# Altium integrated library TI Power Management Step-Down Regulator.IntLib: 559 symbols (part 29 of 35)
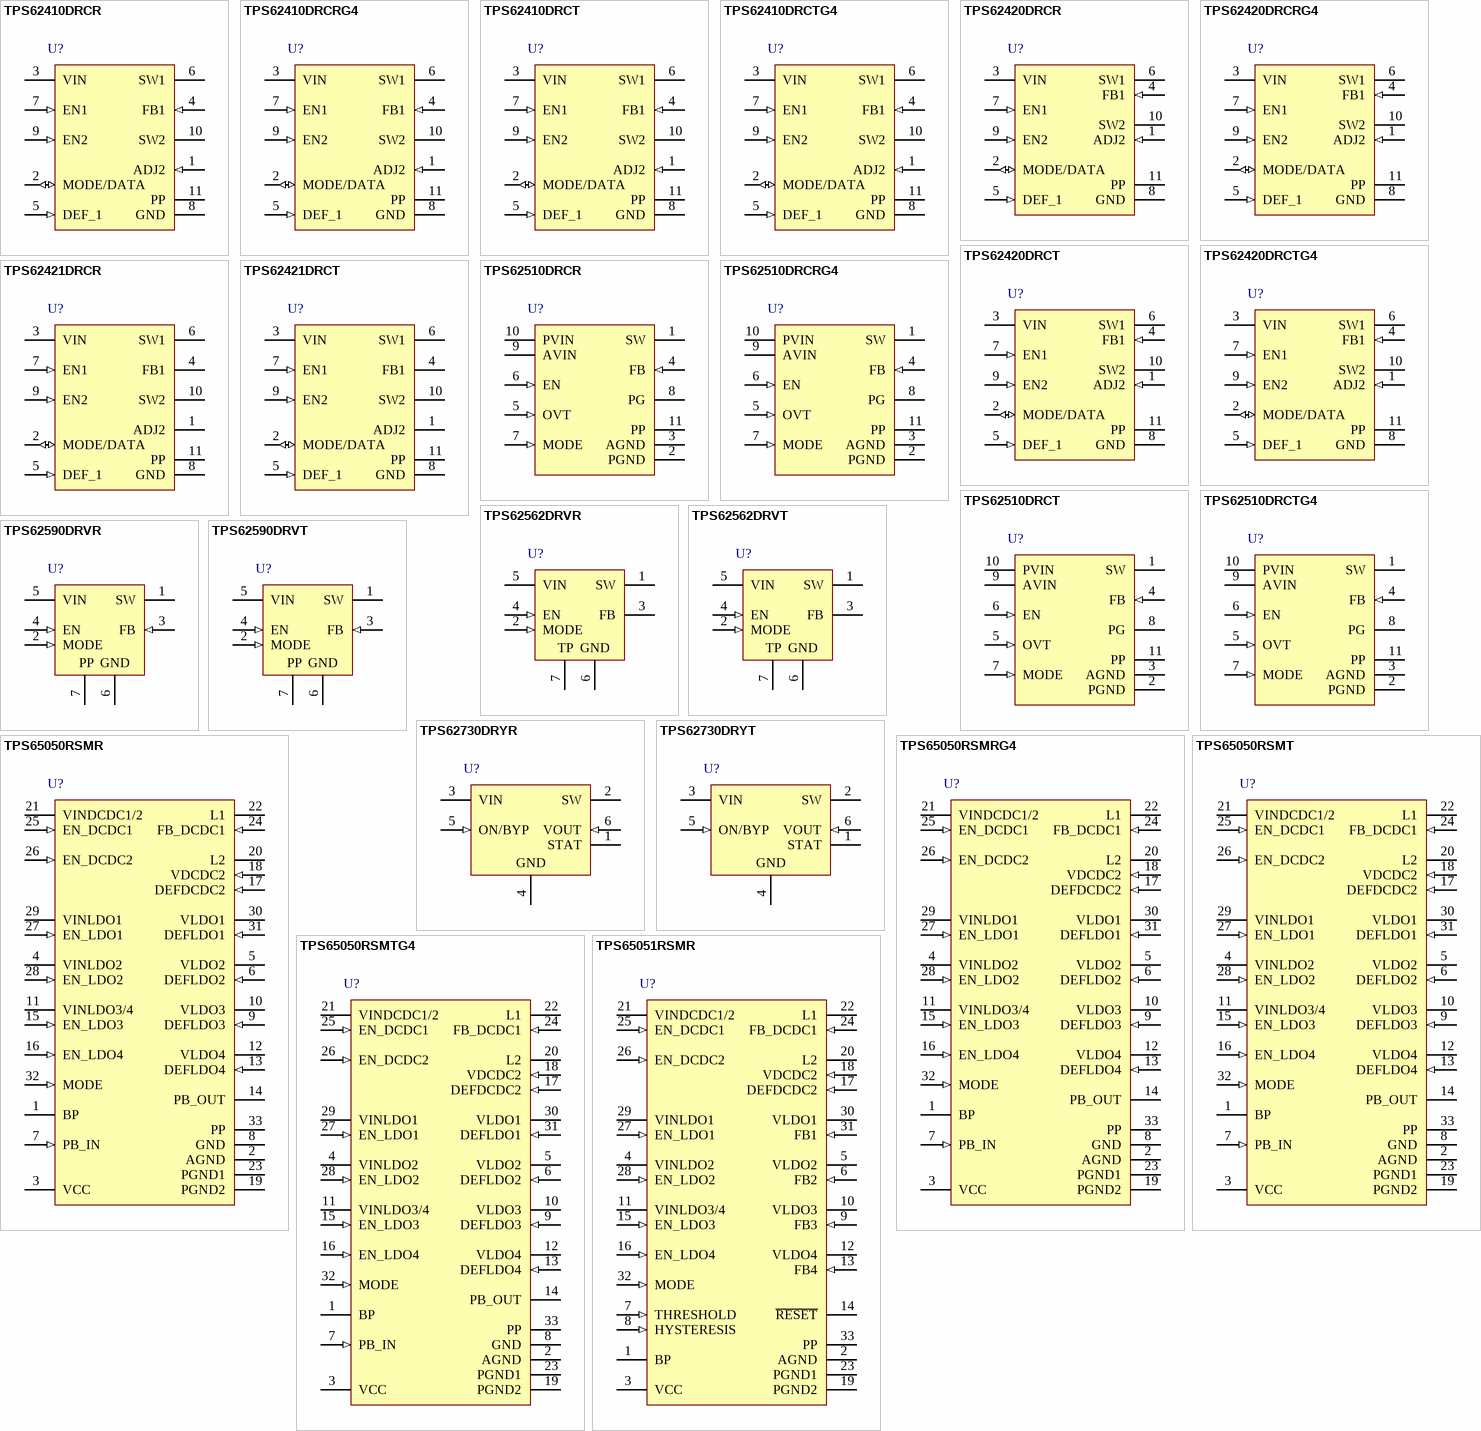
[diagram p47: symbols TPS62410DRCR to TPS65051RSMR]

## TPS62421DRCR
designator U?
Buck Step Down Regulator with 2.5 to 6 V Input and 1.2 to 1.8 V Output, -40 to 85 degC, 10-Pin SON (DRC), Green (RoHS & no Sb/Br); Manufacturer: Texas Instruments; PartNumber: TPS62421DRCR; Duty Cycle(Max)(%): 100; Dynamic Voltage Scaling: TRUE; Iout(Max)(A): 0.6; Iout2(Max)(A): 1; Iq(Typ)(mA): 0.032; Rating: Catalog; Regulated Outputs(#): 2; SubFamily: Step-Down Regulator; Vin(Max)(V): 6; Vin(Min)(V): 2.5; Vout(Max)(V): 1.8; Vout(Min)(V): 1.2; DatasheetVersion: SLVS676C; PackageVersion: revL, Sep-2011; PackageReference: DRC10-2400X1650TP; PackageDescription: 10-Pin Plastic Small Outline No-Lead, 3 x 3 x 1 mm Body, 0.5 mm Pitch, Exposed Pad; Supplier 1: Digi-Key; Supplier Part Number 1: 296-27748-2-ND; Supplier 2: Digi-Key; Supplier Part Number 2: 296-27748-1-ND; Supplier 3: Digi-Key; Supplier Part Number 3: 296-27748-6-ND; Supplier 4: Newark; Supplier Part Number 4: 01T0853; Supplier 5: Mouser; Supplier Part Number 5: 595-TPS62421DRCR; Eco-Plan: Green (RoHS & no Sb/Br); Switch Current Limit(Typ)(A): 1; Synchronous Rectification: TRUE; Topology: Buck; Vout2(Max)(V): 1.8; Vout2(Min)(V): 1.8; Mounting Technology: Surface Mount; ComponentLink1Description: Datasheet; ComponentLink1URL: http://www.ti.com/general/docs/lit/getliterature.tsp?genericPartNumber=TPS62421&fileType=pdf; ComponentLink2Description: Package Specification; ComponentLink2URL: http://www.ti.com/litv/pdf/mpds117k; ComponentLink3Description: URL Link1; ComponentLink3URL: Samples URL:http://www.ti.com/product/tps62421#samples
footprint DRC10-2400X1650TP (SON, 10-Leads, Body 3x3mm, Pitch 0.5mm, Thermal Pad 2.4x1.65mm, TI Recommended)
pins: 1 ADJ2 "Input to adjust output voltage of converter 2. In adjustable version (TPS62420) connect a external resistor divider between VOUT2, this pin and GND to set output voltage between 0.6V and VIN. If EasyScale Interface is used (See Datasheet)", 2 MODE/DATA (io) "This Pin has 2 functions: 1. Operation Mode selection: With low level, Power Save Mode is enabled where the device operates in PFM mode at light loads and enters automatically PWM mode at heavy loads. Pulling this PIN to (See Datasheet)", 3 VIN (power) "Supply voltage, connect to VBAT, 2.5V to 6V", 4 FB1 "Direct feedback voltage sense input of converter 1, connect directly to Vout 1. An internal feed forward capacitor is connected between this pin and the error amplifier. In case of fixed output voltage versions or when the (See Datasheet)", 5 DEF_1 (in) "This pin defines the output voltage of converter 1. The pin acts in TPS62420 as an analog input for output voltage setting via external resistors. In fixed default output voltage versions this pin is a digital input to (See Datasheet)", 6 SW1 (power) "Switch Pin of Converter1. Connected to Inductor", 7 EN1 (in) "Enable Input for Converter1, active high", 8 GND (power) "GND for both converters, this pin should be connected with the PowerPAD", 9 EN2 (in) "Enable Input for Converter 2, active high", 10 SW2 (power) "Switch Pin of Converter 2. Connected to Inductor.", 11 PP (power) "Connect to GND"

## TPS62421DRCT
designator U?
Buck Step Down Regulator with 2.5 to 6 V Input and 1.2 to 1.8 V Output, -40 to 85 degC, 10-Pin SON (DRC), Green (RoHS & no Sb/Br); Manufacturer: Texas Instruments; PartNumber: TPS62421DRCT; Duty Cycle(Max)(%): 100; Dynamic Voltage Scaling: TRUE; Iout(Max)(A): 0.6; Iout2(Max)(A): 1; Iq(Typ)(mA): 0.032; Rating: Catalog; Regulated Outputs(#): 2; SubFamily: Step-Down Regulator; Vin(Max)(V): 6; Vin(Min)(V): 2.5; Vout(Max)(V): 1.8; Vout(Min)(V): 1.2; DatasheetVersion: SLVS676C; PackageVersion: revL, Sep-2011; PackageReference: DRC10-2400X1650TP; PackageDescription: 10-Pin Plastic Small Outline No-Lead, 3 x 3 x 1 mm Body, 0.5 mm Pitch, Exposed Pad; Supplier 1: Digi-Key; Supplier Part Number 1: TPS62421DRCT-ND; Supplier 2: Newark; Supplier Part Number 2: 01T0854; Supplier 3: Mouser; Supplier Part Number 3: 595-TPS62421DRCT; Eco-Plan: Green (RoHS & no Sb/Br); Switch Current Limit(Typ)(A): 1; Synchronous Rectification: TRUE; Topology: Buck; Vout2(Max)(V): 1.8; Vout2(Min)(V): 1.8; Mounting Technology: Surface Mount; ComponentLink1Description: Datasheet; ComponentLink1URL: http://www.ti.com/general/docs/lit/getliterature.tsp?genericPartNumber=TPS62421&fileType=pdf; ComponentLink2Description: Package Specification; ComponentLink2URL: http://www.ti.com/litv/pdf/mpds117k; ComponentLink3Description: URL Link1; ComponentLink3URL: Samples URL:http://www.ti.com/product/tps54611#samples
footprint DRC10-2400X1650TP (SON, 10-Leads, Body 3x3mm, Pitch 0.5mm, Thermal Pad 2.4x1.65mm, TI Recommended)
pins: 1 ADJ2 "Input to adjust output voltage of converter 2. In adjustable version (TPS62420) connect a external resistor divider between VOUT2, this pin and GND to set output voltage between 0.6V and VIN. If EasyScale Interface is used (See Datasheet)", 2 MODE/DATA (io) "This Pin has 2 functions: 1. Operation Mode selection: With low level, Power Save Mode is enabled where the device operates in PFM mode at light loads and enters automatically PWM mode at heavy loads. Pulling this PIN to (See Datasheet)", 3 VIN (power) "Supply voltage, connect to VBAT, 2.5V to 6V", 4 FB1 "Direct feedback voltage sense input of converter 1, connect directly to Vout 1. An internal feed forward capacitor is connected between this pin and the error amplifier. In case of fixed output voltage versions or when the (See Datasheet)", 5 DEF_1 (in) "This pin defines the output voltage of converter 1. The pin acts in TPS62420 as an analog input for output voltage setting via external resistors. In fixed default output voltage versions this pin is a digital input to (See Datasheet)", 6 SW1 (power) "Switch Pin of Converter1. Connected to Inductor", 7 EN1 (in) "Enable Input for Converter1, active high", 8 GND (power) "GND for both converters, this pin should be connected with the PowerPAD", 9 EN2 (in) "Enable Input for Converter 2, active high", 10 SW2 (power) "Switch Pin of Converter 2. Connected to Inductor.", 11 PP (power) "Connect to GND"

## TPS62510DRCR
designator U?
Buck Adjustable Regulator with 1.8 to 3.8 V Input and 0.6 to 3.8 V Output, -40 to 85 degC, 10-Pin SON (DRC), Green (RoHS & no Sb/Br); Manufacturer: Texas Instruments; PartNumber: TPS62510DRCR; Duty Cycle(Max)(%): 100; Iout(Max)(A): 1.5; Iq(Typ)(mA): 0.018; Rating: Catalog; Regulated Outputs(#): 1; SubFamily: Step-Down Regulator; Switch Current Limit(Typ)(A): 2; Synchronous Rectification: TRUE; Vin(Max)(V): 3.8; Vin(Min)(V): 1.8; Vout(Min)(V): 0.6; DatasheetVersion: SLVS651A; PackageVersion: revL, Sep-2011; PackageReference: DRC10-2400X1650TP; PackageDescription: 10-Pin Plastic Small Outline No-Lead, 3 x 3 x 1 mm Body, 0.5 mm Pitch, Exposed Pad; Supplier 1: Digi-Key; Supplier Part Number 1: 296-19793-2-ND; Supplier 2: Digi-Key; Supplier Part Number 2: 296-19793-1-ND; Supplier 3: Digi-Key; Supplier Part Number 3: 296-19793-6-ND; Supplier 4: Farnell; Supplier Part Number 4: 1576950; Supplier 5: Newark; Supplier Part Number 5: 99K4417; Supplier 6: Mouser; Supplier Part Number 6: 595-TPS62510DRCR; Eco-Plan: Green (RoHS & no Sb/Br); Topology: Buck; Vout(Max)(V): 3.8; Mounting Technology: Surface Mount; ComponentLink1Description: Datasheet; ComponentLink1URL: http://www.ti.com/general/docs/lit/getliterature.tsp?genericPartNumber=TPS62510&fileType=pdf; ComponentLink2Description: Package Specification; ComponentLink2URL: http://www.ti.com/litv/pdf/mpds117k; ComponentLink3Description: URL Link1; ComponentLink3URL: Samples URL:http://www.ti.com/product/tps62510#samples
footprint DRC10-2400X1650TP (SON, 10-Leads, Body 3x3mm, Pitch 0.5mm, Thermal Pad 2.4x1.65mm, TI Recommended)
pins: 1 SW (power) "Switch pin of the converter. The inductor is connected here.", 2 PGND (power) "Power ground for the converter", 3 AGND (power) "Analog ground connection", 4 FB (in) "Feedback voltage sense input. Connect directly to VO or to the midpoint of an external voltage divider for the adjustable version.", 5 OVT (in) "Output Voltage Tracking input. The signal applied to this pin is used as reference voltage overiding the internal reference voltage when it is below the internal 0.6-V reference. If this feature is not used, the OVT pin is (See Datasheet)", 6 EN (in) "Enable pin. A logic high enables the regulator, a logic low disables the regulator. This pin needs to be terminated and not left floating.", 7 MODE (in) "This pin is used to force fixed frequency PWM operation or to synchronize the device to an external clock signal. With MODE = high, the device is forced into 1.5-MHz fixed frequency PWM operation. With MODE = low, the device (See Datasheet)", 8 PG (hiz) "Power Good indication. This is a open drain output that is low when the device is disabled or the output voltage drops 10% below target.", 9 AVIN (power) "Power supply for control circuitry. Must be connected to the same voltage supply as PVIN through RC filter.", 10 PVIN (power) "Input voltage for the power stage. VIN must be connected to the same voltage supply as AVIN.", 11 PP (power) "Connect the PowerPAD to analog ground AGND."

## TPS62510DRCRG4
designator U?
Buck Adjustable Regulator with 1.8 to 3.8 V Input and 0.6 to 3.8 V Output, -40 to 85 degC, 10-Pin SON (DRC), Green (RoHS & no Sb/Br); Manufacturer: Texas Instruments; PartNumber: TPS62510DRCRG4; Duty Cycle(Max)(%): 100; Iout(Max)(A): 1.5; Iq(Typ)(mA): 0.018; Rating: Catalog; Regulated Outputs(#): 1; SubFamily: Step-Down Regulator; Switch Current Limit(Typ)(A): 2; Synchronous Rectification: TRUE; Vin(Max)(V): 3.8; Vin(Min)(V): 1.8; Vout(Min)(V): 0.6; DatasheetVersion: SLVS651A; PackageVersion: revL, Sep-2011; PackageReference: DRC10-2400X1650TP; PackageDescription: 10-Pin Plastic Small Outline No-Lead, 3 x 3 x 1 mm Body, 0.5 mm Pitch, Exposed Pad; Supplier 1: Digi-Key; Supplier Part Number 1: TPS62510DRCRG4-ND; Supplier 2: Newark; Supplier Part Number 2: 02M4317; Supplier 3: Mouser; Supplier Part Number 3: 595-TPS62510DRCRG4; Eco-Plan: Green (RoHS & no Sb/Br); Topology: Buck; Vout(Max)(V): 3.8; Mounting Technology: Surface Mount; ComponentLink1Description: Datasheet; ComponentLink1URL: http://www.ti.com/general/docs/lit/getliterature.tsp?genericPartNumber=TPS62510&fileType=pdf; ComponentLink2Description: Package Specification; ComponentLink2URL: http://www.ti.com/litv/pdf/mpds117k; ComponentLink3Description: URL Link1; ComponentLink3URL: Samples URL:http://www.ti.com/product/tps62510#samples
footprint DRC10-2400X1650TP (SON, 10-Leads, Body 3x3mm, Pitch 0.5mm, Thermal Pad 2.4x1.65mm, TI Recommended)
pins: 1 SW (power) "Switch pin of the converter. The inductor is connected here.", 2 PGND (power) "Power ground for the converter", 3 AGND (power) "Analog ground connection", 4 FB (in) "Feedback voltage sense input. Connect directly to VO or to the midpoint of an external voltage divider for the adjustable version.", 5 OVT (in) "Output Voltage Tracking input. The signal applied to this pin is used as reference voltage overiding the internal reference voltage when it is below the internal 0.6-V reference. If this feature is not used, the OVT pin is (See Datasheet)", 6 EN (in) "Enable pin. A logic high enables the regulator, a logic low disables the regulator. This pin needs to be terminated and not left floating.", 7 MODE (in) "This pin is used to force fixed frequency PWM operation or to synchronize the device to an external clock signal. With MODE = high, the device is forced into 1.5-MHz fixed frequency PWM operation. With MODE = low, the device (See Datasheet)", 8 PG (hiz) "Power Good indication. This is a open drain output that is low when the device is disabled or the output voltage drops 10% below target.", 9 AVIN (power) "Power supply for control circuitry. Must be connected to the same voltage supply as PVIN through RC filter.", 10 PVIN (power) "Input voltage for the power stage. VIN must be connected to the same voltage supply as AVIN.", 11 PP (power) "Connect the PowerPAD to analog ground AGND."

## TPS62510DRCT
designator U?
Buck Adjustable Regulator with 1.8 to 3.8 V Input and 0.6 to 3.8 V Output, -40 to 85 degC, 10-Pin SON (DRC), Green (RoHS & no Sb/Br); Manufacturer: Texas Instruments; PartNumber: TPS62510DRCT; Duty Cycle(Max)(%): 100; Iout(Max)(A): 1.5; Iq(Typ)(mA): 0.018; Rating: Catalog; Regulated Outputs(#): 1; SubFamily: Step-Down Regulator; Switch Current Limit(Typ)(A): 2; Synchronous Rectification: TRUE; Vin(Max)(V): 3.8; Vin(Min)(V): 1.8; Vout(Min)(V): 0.6; DatasheetVersion: SLVS651A; PackageVersion: revL, Sep-2011; PackageReference: DRC10-2400X1650TP; PackageDescription: 10-Pin Plastic Small Outline No-Lead, 3 x 3 x 1 mm Body, 0.5 mm Pitch, Exposed Pad; Supplier 1: Digi-Key; Supplier Part Number 1: 296-32512-2-ND; Supplier 2: Digi-Key; Supplier Part Number 2: 296-32512-1-ND; Supplier 3: Digi-Key; Supplier Part Number 3: 296-32512-6-ND; Supplier 4: Farnell; Supplier Part Number 4: 1755476; Supplier 5: Newark; Supplier Part Number 5: 99K4418; Supplier 6: Mouser; Supplier Part Number 6: 595-TPS62510DRCT; Eco-Plan: Green (RoHS & no Sb/Br); Topology: Buck; Vout(Max)(V): 3.8; Mounting Technology: Surface Mount; ComponentLink1Description: Datasheet; ComponentLink1URL: http://www.ti.com/general/docs/lit/getliterature.tsp?genericPartNumber=TPS62510&fileType=pdf; ComponentLink2Description: Package Specification; ComponentLink2URL: http://www.ti.com/litv/pdf/mpds117k; ComponentLink3Description: URL Link1; ComponentLink3URL: Samples URL:http://www.ti.com/product/tps62510#samples
footprint DRC10-2400X1650TP (SON, 10-Leads, Body 3x3mm, Pitch 0.5mm, Thermal Pad 2.4x1.65mm, TI Recommended)
pins: 1 SW (power) "Switch pin of the converter. The inductor is connected here.", 2 PGND (power) "Power ground for the converter", 3 AGND (power) "Analog ground connection", 4 FB (in) "Feedback voltage sense input. Connect directly to VO or to the midpoint of an external voltage divider for the adjustable version.", 5 OVT (in) "Output Voltage Tracking input. The signal applied to this pin is used as reference voltage overiding the internal reference voltage when it is below the internal 0.6-V reference. If this feature is not used, the OVT pin is (See Datasheet)", 6 EN (in) "Enable pin. A logic high enables the regulator, a logic low disables the regulator. This pin needs to be terminated and not left floating.", 7 MODE (in) "This pin is used to force fixed frequency PWM operation or to synchronize the device to an external clock signal. With MODE = high, the device is forced into 1.5-MHz fixed frequency PWM operation. With MODE = low, the device (See Datasheet)", 8 PG (hiz) "Power Good indication. This is a open drain output that is low when the device is disabled or the output voltage drops 10% below target.", 9 AVIN (power) "Power supply for control circuitry. Must be connected to the same voltage supply as PVIN through RC filter.", 10 PVIN (power) "Input voltage for the power stage. VIN must be connected to the same voltage supply as AVIN.", 11 PP (power) "Connect the PowerPAD to analog ground AGND."

## TPS62510DRCTG4
designator U?
Buck Adjustable Regulator with 1.8 to 3.8 V Input and 0.6 to 3.8 V Output, -40 to 85 degC, 10-Pin SON (DRC), Green (RoHS & no Sb/Br); Manufacturer: Texas Instruments; PartNumber: TPS62510DRCTG4; Duty Cycle(Max)(%): 100; Iout(Max)(A): 1.5; Iq(Typ)(mA): 0.018; Rating: Catalog; Regulated Outputs(#): 1; SubFamily: Step-Down Regulator; Switch Current Limit(Typ)(A): 2; Synchronous Rectification: TRUE; Vin(Max)(V): 3.8; Vin(Min)(V): 1.8; Vout(Min)(V): 0.6; DatasheetVersion: SLVS651A; PackageVersion: revL, Sep-2011; PackageReference: DRC10-2400X1650TP; PackageDescription: 10-Pin Plastic Small Outline No-Lead, 3 x 3 x 1 mm Body, 0.5 mm Pitch, Exposed Pad; Supplier 1: Digi-Key; Supplier Part Number 1: TPS62510DRCTG4-ND; Supplier 2: Newark; Supplier Part Number 2: 02M4318; Supplier 3: Mouser; Supplier Part Number 3: 595-TPS62510DRCTG4; Eco-Plan: Green (RoHS & no Sb/Br); Topology: Buck; Vout(Max)(V): 3.8; Mounting Technology: Surface Mount; ComponentLink1Description: Datasheet; ComponentLink1URL: http://www.ti.com/general/docs/lit/getliterature.tsp?genericPartNumber=TPS62510&fileType=pdf; ComponentLink2Description: Package Specification; ComponentLink2URL: http://www.ti.com/litv/pdf/mpds117k; ComponentLink3Description: URL Link1; ComponentLink3URL: Samples URL:http://www.ti.com/product/tps54611#samples
footprint DRC10-2400X1650TP (SON, 10-Leads, Body 3x3mm, Pitch 0.5mm, Thermal Pad 2.4x1.65mm, TI Recommended)
pins: 1 SW (power) "Switch pin of the converter. The inductor is connected here.", 2 PGND (power) "Power ground for the converter", 3 AGND (power) "Analog ground connection", 4 FB (in) "Feedback voltage sense input. Connect directly to VO or to the midpoint of an external voltage divider for the adjustable version.", 5 OVT (in) "Output Voltage Tracking input. The signal applied to this pin is used as reference voltage overiding the internal reference voltage when it is below the internal 0.6-V reference. If this feature is not used, the OVT pin is (See Datasheet)", 6 EN (in) "Enable pin. A logic high enables the regulator, a logic low disables the regulator. This pin needs to be terminated and not left floating.", 7 MODE (in) "This pin is used to force fixed frequency PWM operation or to synchronize the device to an external clock signal. With MODE = high, the device is forced into 1.5-MHz fixed frequency PWM operation. With MODE = low, the device (See Datasheet)", 8 PG (hiz) "Power Good indication. This is a open drain output that is low when the device is disabled or the output voltage drops 10% below target.", 9 AVIN (power) "Power supply for control circuitry. Must be connected to the same voltage supply as PVIN through RC filter.", 10 PVIN (power) "Input voltage for the power stage. VIN must be connected to the same voltage supply as AVIN.", 11 PP (power) "Connect the PowerPAD to analog ground AGND."

## TPS62562DRVR
designator U?
Buck Step Down Regulator with 2.5 to 5.5 V Input and 1.8 V Output, -40 to 85 degC, 6-Pin SON (DRV), Green (RoHS & no Sb/Br); Manufacturer: Texas Instruments; PartNumber: TPS62562DRVR; Duty Cycle(Max)(%): 100; Iout(Max)(A): 0.6; Iq(Typ)(mA): 0.015; Preset Vout(V): 1.8; Rating: Catalog; Regulated Outputs(#): 1; SubFamily: Step-Down Regulator; Synchronous Rectification: TRUE; Vin(Max)(V): 5.5; Vin(Min)(V): 2.5; DatasheetVersion: SLVS815C; PackageVersion: revE, Oct-2010; PackageReference: DRV6-1600X1000TP; PackageDescription: 6-Pin Plastic Small Outline No-Lead, 2 x 2 x 0.8 mm Body, 0.65 mm Pitch, Exposed Pad; Supplier 1: Digi-Key; Supplier Part Number 1: 296-24078-2-ND; Supplier 2: Digi-Key; Supplier Part Number 2: 296-24078-1-ND; Supplier 3: Digi-Key; Supplier Part Number 3: 296-24078-6-ND; Supplier 4: Mouser; Supplier Part Number 4: 595-TPS62562DRVR; Eco-Plan: Green (RoHS & no Sb/Br); Switch Current Limit(Typ)(A): 1; Topology: Buck; Vout(Max)(V): 1.8; Vout(Min)(V): 1.8; Mounting Technology: Surface Mount; ComponentLink1Description: Datasheet; ComponentLink1URL: http://www.ti.com/general/docs/lit/getliterature.tsp?genericPartNumber=TPS62562&fileType=pdf; ComponentLink2Description: Package Specification; ComponentLink2URL: http://www.ti.com/litv/pdf/mpds216d; ComponentLink3Description: URL Link1; ComponentLink3URL: Samples URL:http://www.ti.com/product/tps62562#samples
footprint DRV6-1600X1000TP (SON, 6-Leads, Body 2x2mm, Pitch 0.65mm, Thermal Pad 1.6x1mm, TI Recommended)
pins: 1 SW (power) "This is the switch terminal and is connected to the internal MOSFET switches. Connect the external inductor between this terminal and the output capacitor.", 2 MODE (in) "This terminal is only available as an QFN package option. MODE terminal = high forces the device to operate in the fixed-frequency PWM mode. MODE terminal = low enables the power-save mode with automatic transition from PFM (See Datasheet)", 3 FB "Feedback terminal for the internal regulation loop. Connect the external resistor divider to this terminal. In the fixed-output-voltage option, connect this terminal directly to the output capacitor.", 4 EN (in) "This is the enable terminal of the device. Pulling this terminal to low forces the device into shutdown mode. Pulling this terminal to high enables the device. This terminal must be terminated.", 5 VIN (power) "VIN power-supply terminal", 6 GND (power) "GND supply terminal", 7 TP (power) "Exposed thermal pad."

## TPS62562DRVT
designator U?
Buck Step Down Regulator with 2.5 to 5.5 V Input and 1.8 V Output, -40 to 85 degC, 6-Pin SON (DRV), Green (RoHS & no Sb/Br); Manufacturer: Texas Instruments; PartNumber: TPS62562DRVT; Duty Cycle(Max)(%): 100; Iout(Max)(A): 0.6; Iq(Typ)(mA): 0.015; Preset Vout(V): 1.8; Rating: Catalog; Regulated Outputs(#): 1; SubFamily: Step-Down Regulator; Synchronous Rectification: TRUE; Vin(Max)(V): 5.5; Vin(Min)(V): 2.5; DatasheetVersion: SLVS815C; PackageVersion: revE, Oct-2010; PackageReference: DRV6-1600X1000TP; PackageDescription: 6-Pin Plastic Small Outline No-Lead, 2 x 2 x 0.8 mm Body, 0.65 mm Pitch, Exposed Pad; Supplier 1: Digi-Key; Supplier Part Number 1: TPS62562DRVT-ND; Supplier 2: Mouser; Supplier Part Number 2: 595-TPS62562DRVT; Eco-Plan: Green (RoHS & no Sb/Br); Switch Current Limit(Typ)(A): 1; Topology: Buck; Vout(Max)(V): 1.8; Vout(Min)(V): 1.8; Mounting Technology: Surface Mount; ComponentLink1Description: Datasheet; ComponentLink1URL: http://www.ti.com/general/docs/lit/getliterature.tsp?genericPartNumber=TPS62562&fileType=pdf; ComponentLink2Description: Package Specification; ComponentLink2URL: http://www.ti.com/litv/pdf/mpds216d; ComponentLink3Description: URL Link1; ComponentLink3URL: Samples URL:http://www.ti.com/product/tps54611#samples
footprint DRV6-1600X1000TP (SON, 6-Leads, Body 2x2mm, Pitch 0.65mm, Thermal Pad 1.6x1mm, TI Recommended)
pins: 1 SW (power) "This is the switch terminal and is connected to the internal MOSFET switches. Connect the external inductor between this terminal and the output capacitor.", 2 MODE (in) "This terminal is only available as an QFN package option. MODE terminal = high forces the device to operate in the fixed-frequency PWM mode. MODE terminal = low enables the power-save mode with automatic transition from PFM (See Datasheet)", 3 FB "Feedback terminal for the internal regulation loop. Connect the external resistor divider to this terminal. In the fixed-output-voltage option, connect this terminal directly to the output capacitor.", 4 EN (in) "This is the enable terminal of the device. Pulling this terminal to low forces the device into shutdown mode. Pulling this terminal to high enables the device. This terminal must be terminated.", 5 VIN (power) "VIN power-supply terminal", 6 GND (power) "GND supply terminal", 7 TP (power) "Exposed thermal pad."

## TPS62590DRVR
designator U?
Buck Step Down Regulator with 2.5 to 5.5 V Input and 0.75 to 5.5 V Output, -40 to 85 degC, 6-Pin SON (DRV), Green (RoHS & no Sb/Br); Manufacturer: Texas Instruments; PartNumber: TPS62590DRVR; Duty Cycle(Max)(%): 100; Iout(Max)(A): 1; Iq(Typ)(mA): 0.015; Rating: Catalog; SubFamily: Step-Down Regulator; Switch Current Limit(Typ)(A): 1.4; Synchronous Rectification: TRUE; Vin(Max)(V): 5.5; Vin(Min)(V): 2.5; Vout(Min)(V): 0.75; DatasheetVersion: SLVS897B; PackageVersion: revE, Oct-2010; PackageReference: DRV6-1600X1000TP; PackageDescription: 6-Pin Plastic Small Outline No-Lead, 2 x 2 x 0.8 mm Body, 0.65 mm Pitch, Exposed Pad; Supplier 1: Digi-Key; Supplier Part Number 1: TPS62590DRVR-ND; Supplier 2: Newark; Supplier Part Number 2: 09R6680; Supplier 3: Mouser; Supplier Part Number 3: 595-TPS62590DRVR; Eco-Plan: Green (RoHS & no Sb/Br); Regulated Outputs(#): 1; Topology: Buck; Vout(Max)(V): 5.5; Mounting Technology: Surface Mount; ComponentLink1Description: Datasheet; ComponentLink1URL: http://www.ti.com/general/docs/lit/getliterature.tsp?genericPartNumber=TPS62590&fileType=pdf; ComponentLink2Description: Package Specification; ComponentLink2URL: http://www.ti.com/litv/pdf/mpds216d; ComponentLink3Description: URL Link1; ComponentLink3URL: Samples URL:http://www.ti.com/product/tps62590#samples
footprint DRV6-1600X1000TP (SON, 6-Leads, Body 2x2mm, Pitch 0.65mm, Thermal Pad 1.6x1mm, TI Recommended)
pins: 1 SW (power) "This is the switch pin and is connected to the internal MOSFET switches. Connect the external inductor between this terminal and the output capacitor.", 2 MODE (in) "MODE pin = high forces the device to operate in fixed-frequency PWM mode. Mode pin = low enables the Power Save Mode with automatic transition from PFM mode to fixed-frequency PWM mode.", 3 FB (in) "Feedback Pin for the internal regulation loop. Connect the external resistor divider to this pin. In case of fixed output voltage option, connect this pin directly to the output capacitor", 4 EN (in) "This is the enable pin of the device. Pulling this pin to low forces the device into shutdown mode.Pulling this pin to high enables the device. This pin must be terminated.", 5 VIN (power) "VIN power supply pin.", 6 GND (power) "GND supply pin", 7 PP (power) "Must be soldered to achieve appropriate power dissipation. Should be connected to GND."

## TPS62590DRVT
designator U?
Buck Step Down Regulator with 2.5 to 5.5 V Input and 0.75 to 5.5 V Output, -40 to 85 degC, 6-Pin SON (DRV), Green (RoHS & no Sb/Br); Manufacturer: Texas Instruments; PartNumber: TPS62590DRVT; Duty Cycle(Max)(%): 100; Iout(Max)(A): 1; Iq(Typ)(mA): 0.015; Rating: Catalog; SubFamily: Step-Down Regulator; Switch Current Limit(Typ)(A): 1.4; Synchronous Rectification: TRUE; Vin(Max)(V): 5.5; Vin(Min)(V): 2.5; Vout(Min)(V): 0.75; DatasheetVersion: SLVS897B; PackageVersion: revE, Oct-2010; PackageReference: DRV6-1600X1000TP; PackageDescription: 6-Pin Plastic Small Outline No-Lead, 2 x 2 x 0.8 mm Body, 0.65 mm Pitch, Exposed Pad; Supplier 1: Digi-Key; Supplier Part Number 1: 296-24173-2-ND; Supplier 2: Digi-Key; Supplier Part Number 2: 296-24173-1-ND; Supplier 3: Digi-Key; Supplier Part Number 3: 296-24173-6-ND; Supplier 4: Newark; Supplier Part Number 4: 09R6681; Supplier 5: Mouser; Supplier Part Number 5: 595-TPS62590DRVT; Eco-Plan: Green (RoHS & no Sb/Br); Regulated Outputs(#): 1; Topology: Buck; Vout(Max)(V): 5.5; Mounting Technology: Surface Mount; ComponentLink1Description: Datasheet; ComponentLink1URL: http://www.ti.com/general/docs/lit/getliterature.tsp?genericPartNumber=TPS62590&fileType=pdf; ComponentLink2Description: Package Specification; ComponentLink2URL: http://www.ti.com/litv/pdf/mpds216d; ComponentLink3Description: URL Link1; ComponentLink3URL: Samples URL:http://www.ti.com/product/tps54611#samples
footprint DRV6-1600X1000TP (SON, 6-Leads, Body 2x2mm, Pitch 0.65mm, Thermal Pad 1.6x1mm, TI Recommended)
pins: 1 SW (power) "This is the switch pin and is connected to the internal MOSFET switches. Connect the external inductor between this terminal and the output capacitor.", 2 MODE (in) "MODE pin = high forces the device to operate in fixed-frequency PWM mode. Mode pin = low enables the Power Save Mode with automatic transition from PFM mode to fixed-frequency PWM mode.", 3 FB (in) "Feedback Pin for the internal regulation loop. Connect the external resistor divider to this pin. In case of fixed output voltage option, connect this pin directly to the output capacitor", 4 EN (in) "This is the enable pin of the device. Pulling this pin to low forces the device into shutdown mode.Pulling this pin to high enables the device. This pin must be terminated.", 5 VIN (power) "VIN power supply pin.", 6 GND (power) "GND supply pin", 7 PP (power) "Must be soldered to achieve appropriate power dissipation. Should be connected to GND."

## TPS62730DRYR
designator U?
Buck Step Down Regulator with 1.9 to 3.9 V Input and 2.1 V Output, -40 to 85 degC, 6-Pin SON (DRY), Green (RoHS & no Sb/Br); Manufacturer: Texas Instruments; PartNumber: TPS62730DRYR; Duty Cycle(Max)(%): 100; Iout(Max)(A): 0.1; Rating: Catalog; Regulated Outputs(#): 1; SubFamily: Step-Down Regulator; Synchronous Rectification: TRUE; Vin(Max)(V): 3.9; Vin(Min)(V): 1.9; Vout(Max)(V): 2.1; DatasheetVersion: SLVSAC3A; PackageVersion: revF, Dec-2011; PackageReference: DRY6; PackageDescription: 6-Pin Plastic Small Outline No-Lead, 1 x 1.45 x 0.6 mm Body, 0.5 mm Pitch; Supplier 1: Digi-Key; Supplier Part Number 1: TPS62730DRYR-ND; Supplier 2: Newark; Supplier Part Number 2: 52T8813; Supplier 3: Mouser; Supplier Part Number 3: 595-TPS62730DRYR; Eco-Plan: Green (RoHS & no Sb/Br); Topology: Buck; Vout(Min)(V): 2.1; Mounting Technology: Surface Mount; ComponentLink1Description: Datasheet; ComponentLink1URL: http://www.ti.com/general/docs/lit/getliterature.tsp?genericPartNumber=TPS62730&fileType=pdf; ComponentLink2Description: Package Specification; ComponentLink2URL: http://www.ti.com/litv/pdf/mpds221e; ComponentLink3Description: URL Link1; ComponentLink3URL: Samples URL:http://www.ti.com/product/tps62730#samples
footprint DRY6 (PSON, 6-Leads, Body 1x1.45mm, Pitch 0.5mm, TI Recommended)
pins: 1 STAT (hiz) "This is the open drain status output with active low level. An internal comparator drives this output. The pin is high impedance with ON/BYP = low. With ON/BYP set to high the device and the internal VOUT comparator becomes (See Datasheet)", 2 SW (power) "This is the switch pin and is connected to the internal MOSFET switches. Connect the inductor to this terminal.", 3 VIN (power) "VIN power supply pin. Connect this pin close to the VIN terminal of the input capacitor. A ceramic capacitor of 2.2uF is required.", 4 GND (power) "GND supply pin. Connect this pin close to the GND terminal of the input and output capacitor.", 5 ON/BYP (in) "This is the mode selection pin of the device. Pulling this pin to low forces the device into ultra low power bypass mode. The output of the DC/DC converter is connected to VIN via an internal bypass switch.Pulling this pin (See Datasheet)", 6 VOUT (in) "Feedback Pin for the internal feedback divider network and regulation loop. The internal bypass switch is connected between this pin and VIN. Connect this pin directly to the output capacitor with short trace."

## TPS62730DRYT
designator U?
Buck Step Down Regulator with 1.9 to 3.9 V Input and 2.1 V Output, -40 to 85 degC, 6-Pin SON (DRY), Green (RoHS & no Sb/Br); Manufacturer: Texas Instruments; PartNumber: TPS62730DRYT; Duty Cycle(Max)(%): 100; Iout(Max)(A): 0.1; Rating: Catalog; Regulated Outputs(#): 1; SubFamily: Step-Down Regulator; Synchronous Rectification: TRUE; Vin(Max)(V): 3.9; Vin(Min)(V): 1.9; Vout(Max)(V): 2.1; DatasheetVersion: SLVSAC3A; PackageVersion: revF, Dec-2011; PackageReference: DRY6; PackageDescription: 6-Pin Plastic Small Outline No-Lead, 1 x 1.45 x 0.6 mm Body, 0.5 mm Pitch; Supplier 1: Digi-Key; Supplier Part Number 1: 296-28820-2-ND; Supplier 2: Digi-Key; Supplier Part Number 2: 296-28820-1-ND; Supplier 3: Digi-Key; Supplier Part Number 3: 296-28820-6-ND; Supplier 4: Farnell; Supplier Part Number 4: 1961827; Supplier 5: Newark; Supplier Part Number 5: 52T8814; Supplier 6: Mouser; Supplier Part Number 6: 595-TPS62730DRYT; Eco-Plan: Green (RoHS & no Sb/Br); Topology: Buck; Vout(Min)(V): 2.1; Mounting Technology: Surface Mount; ComponentLink1Description: Datasheet; ComponentLink1URL: http://www.ti.com/general/docs/lit/getliterature.tsp?genericPartNumber=TPS62730&fileType=pdf; ComponentLink2Description: Package Specification; ComponentLink2URL: http://www.ti.com/litv/pdf/mpds221e; ComponentLink3Description: URL Link1; ComponentLink3URL: Samples URL:http://www.ti.com/product/tps54611#samples
footprint DRY6 (PSON, 6-Leads, Body 1x1.45mm, Pitch 0.5mm, TI Recommended)
pins: 1 STAT (hiz) "This is the open drain status output with active low level. An internal comparator drives this output. The pin is high impedance with ON/BYP = low. With ON/BYP set to high the device and the internal VOUT comparator becomes (See Datasheet)", 2 SW (power) "This is the switch pin and is connected to the internal MOSFET switches. Connect the inductor to this terminal.", 3 VIN (power) "VIN power supply pin. Connect this pin close to the VIN terminal of the input capacitor. A ceramic capacitor of 2.2uF is required.", 4 GND (power) "GND supply pin. Connect this pin close to the GND terminal of the input and output capacitor.", 5 ON/BYP (in) "This is the mode selection pin of the device. Pulling this pin to low forces the device into ultra low power bypass mode. The output of the DC/DC converter is connected to VIN via an internal bypass switch.Pulling this pin (See Datasheet)", 6 VOUT (in) "Feedback Pin for the internal feedback divider network and regulation loop. The internal bypass switch is connected between this pin and VIN. Connect this pin directly to the output capacitor with short trace."

## TPS65050RSMR
designator U?
Multi-Channel Power Management IC with 2.5 to 6 V Input and 0.6 to 2.5 V Output, 32-Pin VQFN (RSM), Green (RoHS & no Sb/Br); Manufacturer: Texas Instruments; PartNumber: TPS65050RSMR; Duty Cycle(Max)(%): 100; Iout(Max)(A): 0.6; Iq(Typ)(mA): 2.4; Rating: Catalog; Regulated Outputs(#): 6; SubFamily: Step-Down Regulator; Vin(Min)(V): 2.5; DatasheetVersion: SLVS710A; PackageVersion: revB, Mar-2010; PackageReference: RSM32-2800X2800TP; PackageDescription: 32-Pin Plastic Quad Flat No-Lead, 4 x 4 mm Body, 0.4 mm Pitch, 2.8 x 2.8 mm Exposed Pad; Supplier 1: Digi-Key; Supplier Part Number 1: 296-24615-2-ND; Supplier 2: Digi-Key; Supplier Part Number 2: 296-24615-1-ND; Supplier 3: Digi-Key; Supplier Part Number 3: 296-24615-6-ND; Supplier 4: Newark; Supplier Part Number 4: 30M1837; Supplier 5: Mouser; Supplier Part Number 5: 595-TPS65050RSMR; Eco-Plan: Green (RoHS & no Sb/Br); Topology: Multi-Channel; Vin(Max)(V): 6; Vout(Max)(V): 2.5; Vout(Min)(V): 0.6; Mounting Technology: Surface Mount; ComponentLink1Description: Datasheet; ComponentLink1URL: http://www.ti.com/general/docs/lit/getliterature.tsp?genericPartNumber=TPS65050&fileType=pdf; ComponentLink2Description: Package Specification; ComponentLink2URL: http://www.ti.com/litv/pdf/mpqf195a; ComponentLink3Description: URL Link1; ComponentLink3URL: Samples URL:http://www.ti.com/product/tps65050#samples
footprint RSM32-2800X2800TP (QFN, 32-Leads, Body 4x4mm, Pitch 0.4mm, Thermal Pad 2.8x2.8mm, TI Recommended)
pins: 1 BP "Input for bypass capacitor for internal reference", 2 AGND (power) "GND for converter 2", 3 VCC (power) "Power supply for digital and analog circuitry of DCDC1, DCDC2 and LDOs. This pin must be connected to the same voltage supply as VINDCDC1/2.", 4 VINLDO2 (power) "Input voltage for LDO2", 5 VLDO2 (power) "Output voltage of LDO2", 6 DEFLDO2 (in) "Digital input, used to set the default output voltage of LDO1 to LDO4.", 7 PB_IN (in) "Input for the pushbutton ON-OFF function", 8 GND (power) "Connect to GND", 9 DEFLDO3 (in) "Digital input, used to set the default output voltage of LDO1 to LDO4.", 10 VLDO3 (power) "Output voltage of LDO3", 11 VINLDO3/4 (power) "Input voltage for LDO3 and LDO4", 12 VLDO4 (power) "Output voltage of LDO4", 13 DEFLDO4 (in) "Digital input, used to set the default output voltage of LDO1 to LDO4; MSB", 14 PB_OUT (oc) "Open drain output. Active low after the supply voltage (VCC) exceeded the undervoltage lockout threshold. The pin can be toggled pulling PB_IN high.", 15 EN_LDO3 (in) "Enable input for LDO3. Logic high enables the LDO, logic low disables the LDO.", 16 EN_LDO4 (in) "Enable input for LDO4. Logic high enables the LDO, logic low disables the LDO.", 17 DEFDCDC2 (in) "TPS65050 and TPS65051: Feedback pin for converter 2. Connect DEFDCDC2 to the center of the external resistor divider. TPS65052 and TPS65056: Select pin of converter 2 output voltage. High = 1.3 V, Low = 1 V TPS65054: Select (See Datasheet)", 18 VDCDC2 (in) "Feedback voltage sense input, connect directly to the output of converter 2.", 19 PGND2 (power) "GND for converter 2", 20 L2 (power) "Switch Pin of converter 2. Connected to Inductor.", 21 VINDCDC1/2 (power) "Input voltage for VDCDC1 and VDCDC2 step-down converter. This must be connected to the same voltage supply as VCC.", 22 L1 (power) "Switch pin of converter 1. Connected to Inductor .", 23 PGND1 (power) "GND for converter 1", 24 FB_DCDC1 (in) "Input to adjust output voltage of converter 1 between 0.6 V and V1. Connect external resistor divider between VOUT1, this pin, and GND.", 25 EN_DCDC1 (in) "Enable Input for converter 1, active high", 26 EN_DCDC2 (in) "Enable Input for converter 2, active high", 27 EN_LDO1 (in) "Enable input for LDO1. Logic high enables the LDO, logic low disables the LDO.", 28 EN_LDO2 (in) "Enable input for LDO2. Logic high enables the LDO, logic low disables the LDO.", 29 VINLDO1 (power) "Input voltage for LDO1", 30 VLDO1 (power) "Output voltage of LDO1", 31 DEFLDO1 (in) "Digital input, used to set the default output voltage of LDO1 to LDO4; LSB", 32 MODE (in) "Select between Power Safe Mode and forced PWM Mode for DCDC1 and DCDC2. In Power Safe Mode, PFM is used at light  loads, PWM for higher loads. If PIN is set to high level, forced PWM Mode is selected. If Pin has low level, (See Datasheet)", 33 PP (power) "Connect to GND"

## TPS65050RSMRG4
designator U?
Multi-Channel Power Management IC with 2.5 to 6 V Input and 0.6 to 2.5 V Output, 32-Pin VQFN (RSM), Green (RoHS & no Sb/Br); Manufacturer: Texas Instruments; PartNumber: TPS65050RSMRG4; Duty Cycle(Max)(%): 100; Iout(Max)(A): 0.6; Iq(Typ)(mA): 2.4; Rating: Catalog; Regulated Outputs(#): 6; SubFamily: Step-Down Regulator; Vin(Min)(V): 2.5; DatasheetVersion: SLVS710A; PackageVersion: revB, Mar-2010; PackageReference: RSM32-2800X2800TP; PackageDescription: 32-Pin Plastic Quad Flat No-Lead, 4 x 4 mm Body, 0.4 mm Pitch, 2.8 x 2.8 mm Exposed Pad; Supplier 1: Digi-Key; Supplier Part Number 1: TPS65050RSMRG4-ND; Supplier 2: Newark; Supplier Part Number 2: 30M1838; Supplier 3: Mouser; Supplier Part Number 3: 595-TPS65050RSMRG4; Eco-Plan: Green (RoHS & no Sb/Br); Topology: Multi-Channel; Vin(Max)(V): 6; Vout(Max)(V): 2.5; Vout(Min)(V): 0.6; Mounting Technology: Surface Mount; ComponentLink1Description: Datasheet; ComponentLink1URL: http://www.ti.com/general/docs/lit/getliterature.tsp?genericPartNumber=TPS65050&fileType=pdf; ComponentLink2Description: Package Specification; ComponentLink2URL: http://www.ti.com/litv/pdf/mpqf195a; ComponentLink3Description: URL Link1; ComponentLink3URL: Samples URL:http://www.ti.com/product/tps65050#samples
footprint RSM32-2800X2800TP (QFN, 32-Leads, Body 4x4mm, Pitch 0.4mm, Thermal Pad 2.8x2.8mm, TI Recommended)
pins: 1 BP "Input for bypass capacitor for internal reference", 2 AGND (power) "GND for converter 2", 3 VCC (power) "Power supply for digital and analog circuitry of DCDC1, DCDC2 and LDOs. This pin must be connected to the same voltage supply as VINDCDC1/2.", 4 VINLDO2 (power) "Input voltage for LDO2", 5 VLDO2 (power) "Output voltage of LDO2", 6 DEFLDO2 (in) "Digital input, used to set the default output voltage of LDO1 to LDO4.", 7 PB_IN (in) "Input for the pushbutton ON-OFF function", 8 GND (power) "Connect to GND", 9 DEFLDO3 (in) "Digital input, used to set the default output voltage of LDO1 to LDO4.", 10 VLDO3 (power) "Output voltage of LDO3", 11 VINLDO3/4 (power) "Input voltage for LDO3 and LDO4", 12 VLDO4 (power) "Output voltage of LDO4", 13 DEFLDO4 (in) "Digital input, used to set the default output voltage of LDO1 to LDO4; MSB", 14 PB_OUT (oc) "Open drain output. Active low after the supply voltage (VCC) exceeded the undervoltage lockout threshold. The pin can be toggled pulling PB_IN high.", 15 EN_LDO3 (in) "Enable input for LDO3. Logic high enables the LDO, logic low disables the LDO.", 16 EN_LDO4 (in) "Enable input for LDO4. Logic high enables the LDO, logic low disables the LDO.", 17 DEFDCDC2 (in) "TPS65050 and TPS65051: Feedback pin for converter 2. Connect DEFDCDC2 to the center of the external resistor divider. TPS65052 and TPS65056: Select pin of converter 2 output voltage. High = 1.3 V, Low = 1 V TPS65054: Select (See Datasheet)", 18 VDCDC2 (in) "Feedback voltage sense input, connect directly to the output of converter 2.", 19 PGND2 (power) "GND for converter 2", 20 L2 (power) "Switch Pin of converter 2. Connected to Inductor.", 21 VINDCDC1/2 (power) "Input voltage for VDCDC1 and VDCDC2 step-down converter. This must be connected to the same voltage supply as VCC.", 22 L1 (power) "Switch pin of converter 1. Connected to Inductor .", 23 PGND1 (power) "GND for converter 1", 24 FB_DCDC1 (in) "Input to adjust output voltage of converter 1 between 0.6 V and V1. Connect external resistor divider between VOUT1, this pin, and GND.", 25 EN_DCDC1 (in) "Enable Input for converter 1, active high", 26 EN_DCDC2 (in) "Enable Input for converter 2, active high", 27 EN_LDO1 (in) "Enable input for LDO1. Logic high enables the LDO, logic low disables the LDO.", 28 EN_LDO2 (in) "Enable input for LDO2. Logic high enables the LDO, logic low disables the LDO.", 29 VINLDO1 (power) "Input voltage for LDO1", 30 VLDO1 (power) "Output voltage of LDO1", 31 DEFLDO1 (in) "Digital input, used to set the default output voltage of LDO1 to LDO4; LSB", 32 MODE (in) "Select between Power Safe Mode and forced PWM Mode for DCDC1 and DCDC2. In Power Safe Mode, PFM is used at light  loads, PWM for higher loads. If PIN is set to high level, forced PWM Mode is selected. If Pin has low level, (See Datasheet)", 33 PP (power) "Connect to GND"

## TPS65050RSMT
designator U?
Multi-Channel Power Management IC with 2.5 to 6 V Input and 0.6 to 2.5 V Output, 32-Pin VQFN (RSM), Green (RoHS & no Sb/Br); Manufacturer: Texas Instruments; PartNumber: TPS65050RSMT; Duty Cycle(Max)(%): 100; Iout(Max)(A): 0.6; Iq(Typ)(mA): 2.4; Rating: Catalog; Regulated Outputs(#): 6; SubFamily: Step-Down Regulator; Vin(Min)(V): 2.5; DatasheetVersion: SLVS710A; PackageVersion: revB, Mar-2010; PackageReference: RSM32-2800X2800TP; PackageDescription: 32-Pin Plastic Quad Flat No-Lead, 4 x 4 mm Body, 0.4 mm Pitch, 2.8 x 2.8 mm Exposed Pad; Supplier 1: Digi-Key; Supplier Part Number 1: 296-21557-2-ND; Supplier 2: Digi-Key; Supplier Part Number 2: 296-21557-1-ND; Supplier 3: Digi-Key; Supplier Part Number 3: 296-21557-6-ND; Supplier 4: Newark; Supplier Part Number 4: 30M1839; Supplier 5: Mouser; Supplier Part Number 5: 595-TPS65050RSMT; Eco-Plan: Green (RoHS & no Sb/Br); Topology: Multi-Channel; Vin(Max)(V): 6; Vout(Max)(V): 2.5; Vout(Min)(V): 0.6; Mounting Technology: Surface Mount; ComponentLink1Description: Datasheet; ComponentLink1URL: http://www.ti.com/general/docs/lit/getliterature.tsp?genericPartNumber=TPS65050&fileType=pdf; ComponentLink2Description: Package Specification; ComponentLink2URL: http://www.ti.com/litv/pdf/mpqf195a; ComponentLink3Description: URL Link1; ComponentLink3URL: Samples URL:http://www.ti.com/product/tps65050#samples
footprint RSM32-2800X2800TP (QFN, 32-Leads, Body 4x4mm, Pitch 0.4mm, Thermal Pad 2.8x2.8mm, TI Recommended)
pins: 1 BP "Input for bypass capacitor for internal reference", 2 AGND (power) "GND for converter 2", 3 VCC (power) "Power supply for digital and analog circuitry of DCDC1, DCDC2 and LDOs. This pin must be connected to the same voltage supply as VINDCDC1/2.", 4 VINLDO2 (power) "Input voltage for LDO2", 5 VLDO2 (power) "Output voltage of LDO2", 6 DEFLDO2 (in) "Digital input, used to set the default output voltage of LDO1 to LDO4.", 7 PB_IN (in) "Input for the pushbutton ON-OFF function", 8 GND (power) "Connect to GND", 9 DEFLDO3 (in) "Digital input, used to set the default output voltage of LDO1 to LDO4.", 10 VLDO3 (power) "Output voltage of LDO3", 11 VINLDO3/4 (power) "Input voltage for LDO3 and LDO4", 12 VLDO4 (power) "Output voltage of LDO4", 13 DEFLDO4 (in) "Digital input, used to set the default output voltage of LDO1 to LDO4; MSB", 14 PB_OUT (oc) "Open drain output. Active low after the supply voltage (VCC) exceeded the undervoltage lockout threshold. The pin can be toggled pulling PB_IN high.", 15 EN_LDO3 (in) "Enable input for LDO3. Logic high enables the LDO, logic low disables the LDO.", 16 EN_LDO4 (in) "Enable input for LDO4. Logic high enables the LDO, logic low disables the LDO.", 17 DEFDCDC2 (in) "TPS65050 and TPS65051: Feedback pin for converter 2. Connect DEFDCDC2 to the center of the external resistor divider. TPS65052 and TPS65056: Select pin of converter 2 output voltage. High = 1.3 V, Low = 1 V TPS65054: Select (See Datasheet)", 18 VDCDC2 (in) "Feedback voltage sense input, connect directly to the output of converter 2.", 19 PGND2 (power) "GND for converter 2", 20 L2 (power) "Switch Pin of converter 2. Connected to Inductor.", 21 VINDCDC1/2 (power) "Input voltage for VDCDC1 and VDCDC2 step-down converter. This must be connected to the same voltage supply as VCC.", 22 L1 (power) "Switch pin of converter 1. Connected to Inductor .", 23 PGND1 (power) "GND for converter 1", 24 FB_DCDC1 (in) "Input to adjust output voltage of converter 1 between 0.6 V and V1. Connect external resistor divider between VOUT1, this pin, and GND.", 25 EN_DCDC1 (in) "Enable Input for converter 1, active high", 26 EN_DCDC2 (in) "Enable Input for converter 2, active high", 27 EN_LDO1 (in) "Enable input for LDO1. Logic high enables the LDO, logic low disables the LDO.", 28 EN_LDO2 (in) "Enable input for LDO2. Logic high enables the LDO, logic low disables the LDO.", 29 VINLDO1 (power) "Input voltage for LDO1", 30 VLDO1 (power) "Output voltage of LDO1", 31 DEFLDO1 (in) "Digital input, used to set the default output voltage of LDO1 to LDO4; LSB", 32 MODE (in) "Select between Power Safe Mode and forced PWM Mode for DCDC1 and DCDC2. In Power Safe Mode, PFM is used at light  loads, PWM for higher loads. If PIN is set to high level, forced PWM Mode is selected. If Pin has low level, (See Datasheet)", 33 PP (power) "Connect to GND"

## TPS65050RSMTG4
designator U?
Multi-Channel Power Management IC with 2.5 to 6 V Input and 0.6 to 2.5 V Output, 32-Pin VQFN (RSM), Green (RoHS & no Sb/Br); Manufacturer: Texas Instruments; PartNumber: TPS65050RSMTG4; Duty Cycle(Max)(%): 100; Iout(Max)(A): 0.6; Iq(Typ)(mA): 2.4; Rating: Catalog; Regulated Outputs(#): 6; SubFamily: Step-Down Regulator; Vin(Min)(V): 2.5; DatasheetVersion: SLVS710A; PackageVersion: revB, Mar-2010; PackageReference: RSM32-2800X2800TP; PackageDescription: 32-Pin Plastic Quad Flat No-Lead, 4 x 4 mm Body, 0.4 mm Pitch, 2.8 x 2.8 mm Exposed Pad; Supplier 1: Digi-Key; Supplier Part Number 1: TPS65050RSMTG4-ND; Supplier 2: Newark; Supplier Part Number 2: 34M0197; Supplier 3: Mouser; Supplier Part Number 3: 595-TPS65050RSMTG4; Eco-Plan: Green (RoHS & no Sb/Br); Topology: Multi-Channel; Vin(Max)(V): 6; Vout(Max)(V): 2.5; Vout(Min)(V): 0.6; Mounting Technology: Surface Mount; ComponentLink1Description: Datasheet; ComponentLink1URL: http://www.ti.com/general/docs/lit/getliterature.tsp?genericPartNumber=TPS65050&fileType=pdf; ComponentLink2Description: Package Specification; ComponentLink2URL: http://www.ti.com/litv/pdf/mpqf195a; ComponentLink3Description: URL Link1; ComponentLink3URL: Samples URL:http://www.ti.com/product/tps54611#samples
footprint RSM32-2800X2800TP (QFN, 32-Leads, Body 4x4mm, Pitch 0.4mm, Thermal Pad 2.8x2.8mm, TI Recommended)
pins: 1 BP "Input for bypass capacitor for internal reference", 2 AGND (power) "GND for converter 2", 3 VCC (power) "Power supply for digital and analog circuitry of DCDC1, DCDC2 and LDOs. This pin must be connected to the same voltage supply as VINDCDC1/2.", 4 VINLDO2 (power) "Input voltage for LDO2", 5 VLDO2 (power) "Output voltage of LDO2", 6 DEFLDO2 (in) "Digital input, used to set the default output voltage of LDO1 to LDO4.", 7 PB_IN (in) "Input for the pushbutton ON-OFF function", 8 GND (power) "Connect to GND", 9 DEFLDO3 (in) "Digital input, used to set the default output voltage of LDO1 to LDO4.", 10 VLDO3 (power) "Output voltage of LDO3", 11 VINLDO3/4 (power) "Input voltage for LDO3 and LDO4", 12 VLDO4 (power) "Output voltage of LDO4", 13 DEFLDO4 (in) "Digital input, used to set the default output voltage of LDO1 to LDO4; MSB", 14 PB_OUT (oc) "Open drain output. Active low after the supply voltage (VCC) exceeded the undervoltage lockout threshold. The pin can be toggled pulling PB_IN high.", 15 EN_LDO3 (in) "Enable input for LDO3. Logic high enables the LDO, logic low disables the LDO.", 16 EN_LDO4 (in) "Enable input for LDO4. Logic high enables the LDO, logic low disables the LDO.", 17 DEFDCDC2 (in) "TPS65050 and TPS65051: Feedback pin for converter 2. Connect DEFDCDC2 to the center of the external resistor divider. TPS65052 and TPS65056: Select pin of converter 2 output voltage. High = 1.3 V, Low = 1 V TPS65054: Select (See Datasheet)", 18 VDCDC2 (in) "Feedback voltage sense input, connect directly to the output of converter 2.", 19 PGND2 (power) "GND for converter 2", 20 L2 (power) "Switch Pin of converter 2. Connected to Inductor.", 21 VINDCDC1/2 (power) "Input voltage for VDCDC1 and VDCDC2 step-down converter. This must be connected to the same voltage supply as VCC.", 22 L1 (power) "Switch pin of converter 1. Connected to Inductor .", 23 PGND1 (power) "GND for converter 1", 24 FB_DCDC1 (in) "Input to adjust output voltage of converter 1 between 0.6 V and V1. Connect external resistor divider between VOUT1, this pin, and GND.", 25 EN_DCDC1 (in) "Enable Input for converter 1, active high", 26 EN_DCDC2 (in) "Enable Input for converter 2, active high", 27 EN_LDO1 (in) "Enable input for LDO1. Logic high enables the LDO, logic low disables the LDO.", 28 EN_LDO2 (in) "Enable input for LDO2. Logic high enables the LDO, logic low disables the LDO.", 29 VINLDO1 (power) "Input voltage for LDO1", 30 VLDO1 (power) "Output voltage of LDO1", 31 DEFLDO1 (in) "Digital input, used to set the default output voltage of LDO1 to LDO4; LSB", 32 MODE (in) "Select between Power Safe Mode and forced PWM Mode for DCDC1 and DCDC2. In Power Safe Mode, PFM is used at light  loads, PWM for higher loads. If PIN is set to high level, forced PWM Mode is selected. If Pin has low level, (See Datasheet)", 33 PP (power) "Connect to GND"